# Altium footprint library SM_DFN8(3x3)-P050_N.PcbLib: 1 footprints
Each footprint in its own frame and in the unit in brackets; x right, y up, seen from the top. Pads: shape width x height; smd on the part's side, far side on the other; paste and mask are expansions set on the pad; w line width, h text height; cw(c..) or ccw(c..) is an arc to the next point about the centre after c.
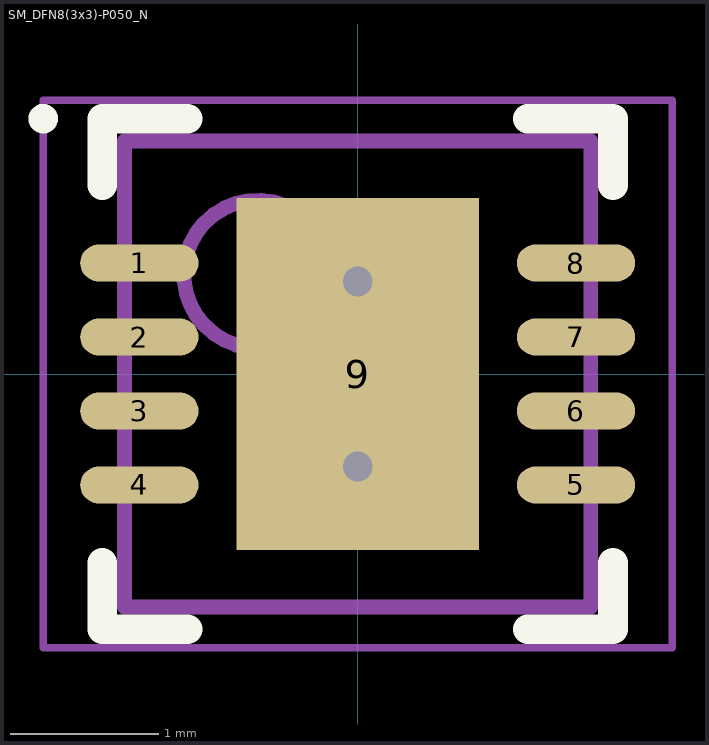
[diagram p0: the footprint, top view; thin cyan lines are the x and y axes]

## SM_DFN8(3x3)-P050_N [mm] "DFN, 8-Leads, Body 3x3mm, Pitch 0.5mm, Thermal Pad, IPC Medium Density"
height 1.1
pads (9):
  oval 0.8x0.25 smd: 1(-1.475,0.75) 2(-1.475,0.25) 3(-1.475,-0.25) 4(-1.475,-0.75) 5(1.475,-0.75) 6(1.475,-0.25) 7(1.475,0.25) 8(1.475,0.75)
  rect 1.64x2.38 smd paste-0.82: 9(0,0)
via 0,0.625 diameter 0.5 hole 0.2
via 0,-0.625 diameter 0.5 hole 0.2
Top Overlay:
  circle w0.1: c-2.125,1.725 r0.05
  lines w0.2: -1.725,-1.275 -1.725,-1.725 -1.15,-1.725 ; -1.725,1.275 -1.725,1.725 -1.15,1.725 ; 1.15,-1.725 1.725,-1.725 1.725,-1.275 ; 1.15,1.725 1.725,1.725 1.725,1.275
Top Paste:
  rectangle: -0.725,-1.15 0.725,-0.725
  rectangle: -0.725,-0.525 0.725,-0.1
  rectangle: -0.725,0.725 0.725,1.15
  rectangle: -0.725,0.1 0.725,0.525
Mechanical 13:
  circle w0.1: c-0.675,0.675 r0.5
  lines w0.1: -1.575,-1.575 1.575,-1.575 1.575,1.575 -1.575,1.575 -1.575,-1.575
Mechanical 15:
  lines w0.05: -2.125,-1.85 2.125,-1.85 2.125,1.85 -2.125,1.85 -2.125,-1.85
  lines w0.1: -0.5,0 0.5,0 ; 0,-0.5 0,0.5
3D body: height 1, standoff 0, extent -1.575,-1.575 1.575,1.575